# EAGLE library part MAX98357*E (library MAX98357)
MAX98357A supports I2S data and the MAX98357B supports left-justified data. Both ICs support 8 channel time division multiplexed (TDM) data.
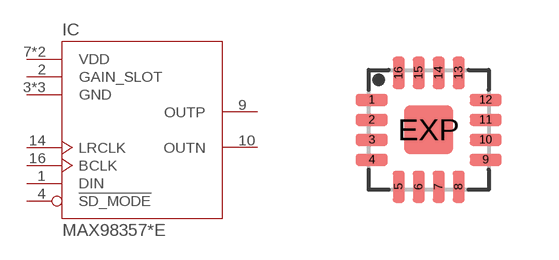
[diagram p0: symbol with the pads of QFN16; footprint QFN16]

Designator prefix IC

## MAX98357AET, MAX98357BET  [QFN16]
1  DIN  in
2  GAIN_SLOT  pas
3  GND  pwr
4  !SD_MODE!  in
7  VDD  pwr
8  VDD  pwr
9  OUTP  out
10  OUTN  out
11  GND  pwr
14  LRCLK
15  GND  pwr
16  BCLK

## Footprint QFN16 (pad centres in mm)
QFN16 3x3mm Based on MAXIM landpattern drawings. Applies for packages: T1633-2, T1633+2, T1633-4, T1633+4, T1633-4C, T1633+4C, T1633-5, T1633-5C, T1633-7C
smd 0.8 x 0.3: 1 -1.425,0.75; 2 -1.425,0.25; 3 -1.425,-0.25; 4 -1.425,-0.75; 9 1.425,-0.75; 10 1.425,-0.25; 11 1.425,0.25; 12 1.425,0.75
smd 0.3 x 0.8: 5 -0.75,-1.425; 6 -0.25,-1.425; 7 0.25,-1.425; 8 0.75,-1.425; 13 0.75,1.425; 14 0.25,1.425; 15 -0.25,1.425; 16 -0.75,1.425
smd 1.23 x 1.23: EXP 0,0